# Altium schematic symbol library 1_P1.schdoc.SCHLIB: 1 symbol
Pins are listed as number, name and electrical type; pins without a type are passive.

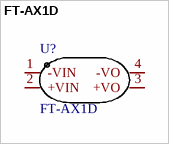
[diagram p0: symbol FT-AX1D]

## FT-AX1D
designator U?
Manufacturer: MORNSUN(金升阳); Add into BOM: yes; Symbol: FT-AX1D; Device: FT-AX1D; LCSC Part Name: FT-AX1D; Supplier Part: C5127623; Manufacturer Part: FT-AX1D; Supplier Footprint: 插件; JLCPCB Part Class: 扩展库; Datasheet: https://atta.szlcsc.com/upload/public/pdf/source/20220812/46717D78754D3A4E3C88374812D1964E.pdf; Supplier: LCSC; Convert to PCB: yes; Name: FT-AX1D
footprint PWRM-TH_MORNSUN_FT-AX1D
3D model PWRM-TH_MORNSUN_FT-AX1D
pins: 1 -VIN, 2 +VIN, 3 +VO, 4 -VO